# EAGLE library part ADNS-2610 (library SpecialIC)
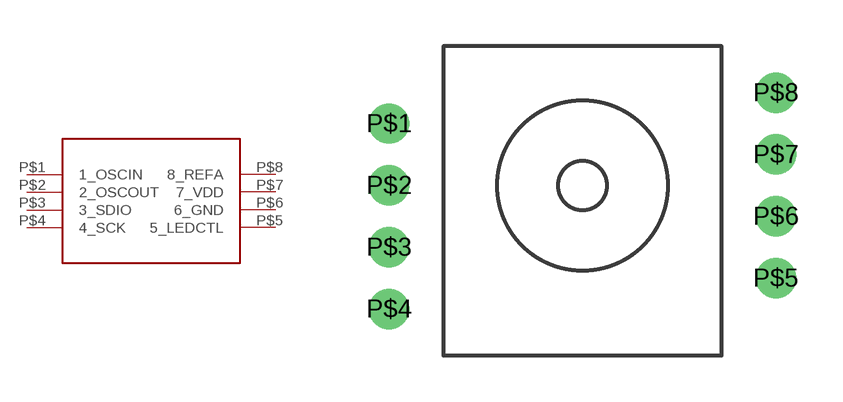
[diagram p5: symbol with the pads of ADNS-2610; footprint ADNS-2610]

Designator prefix -

## ADNS-2610 (PLACE_PART: YES)  [ADNS-2610]
P$1  1_OSCIN
P$2  2_OSCOUT
P$3  3_SDIO
P$4  4_SCK
P$5  5_LEDCTL
P$6  6_GND
P$7  7_VDD
P$8  8_REFA

## Footprint ADNS-2610 (pad centres in mm)
drill 0.8: P$1 -6.25,2; P$2 -6.25,0; P$3 -6.25,-2; P$4 -6.25,-4; P$5 6.25,-3; P$6 6.25,-1; P$7 6.25,1; P$8 6.25,3